# Altium schematic symbol library Schlib_Bourns.SchLib: 62 symbols
Pins are listed as number, name and electrical type; pins without a type are passive.

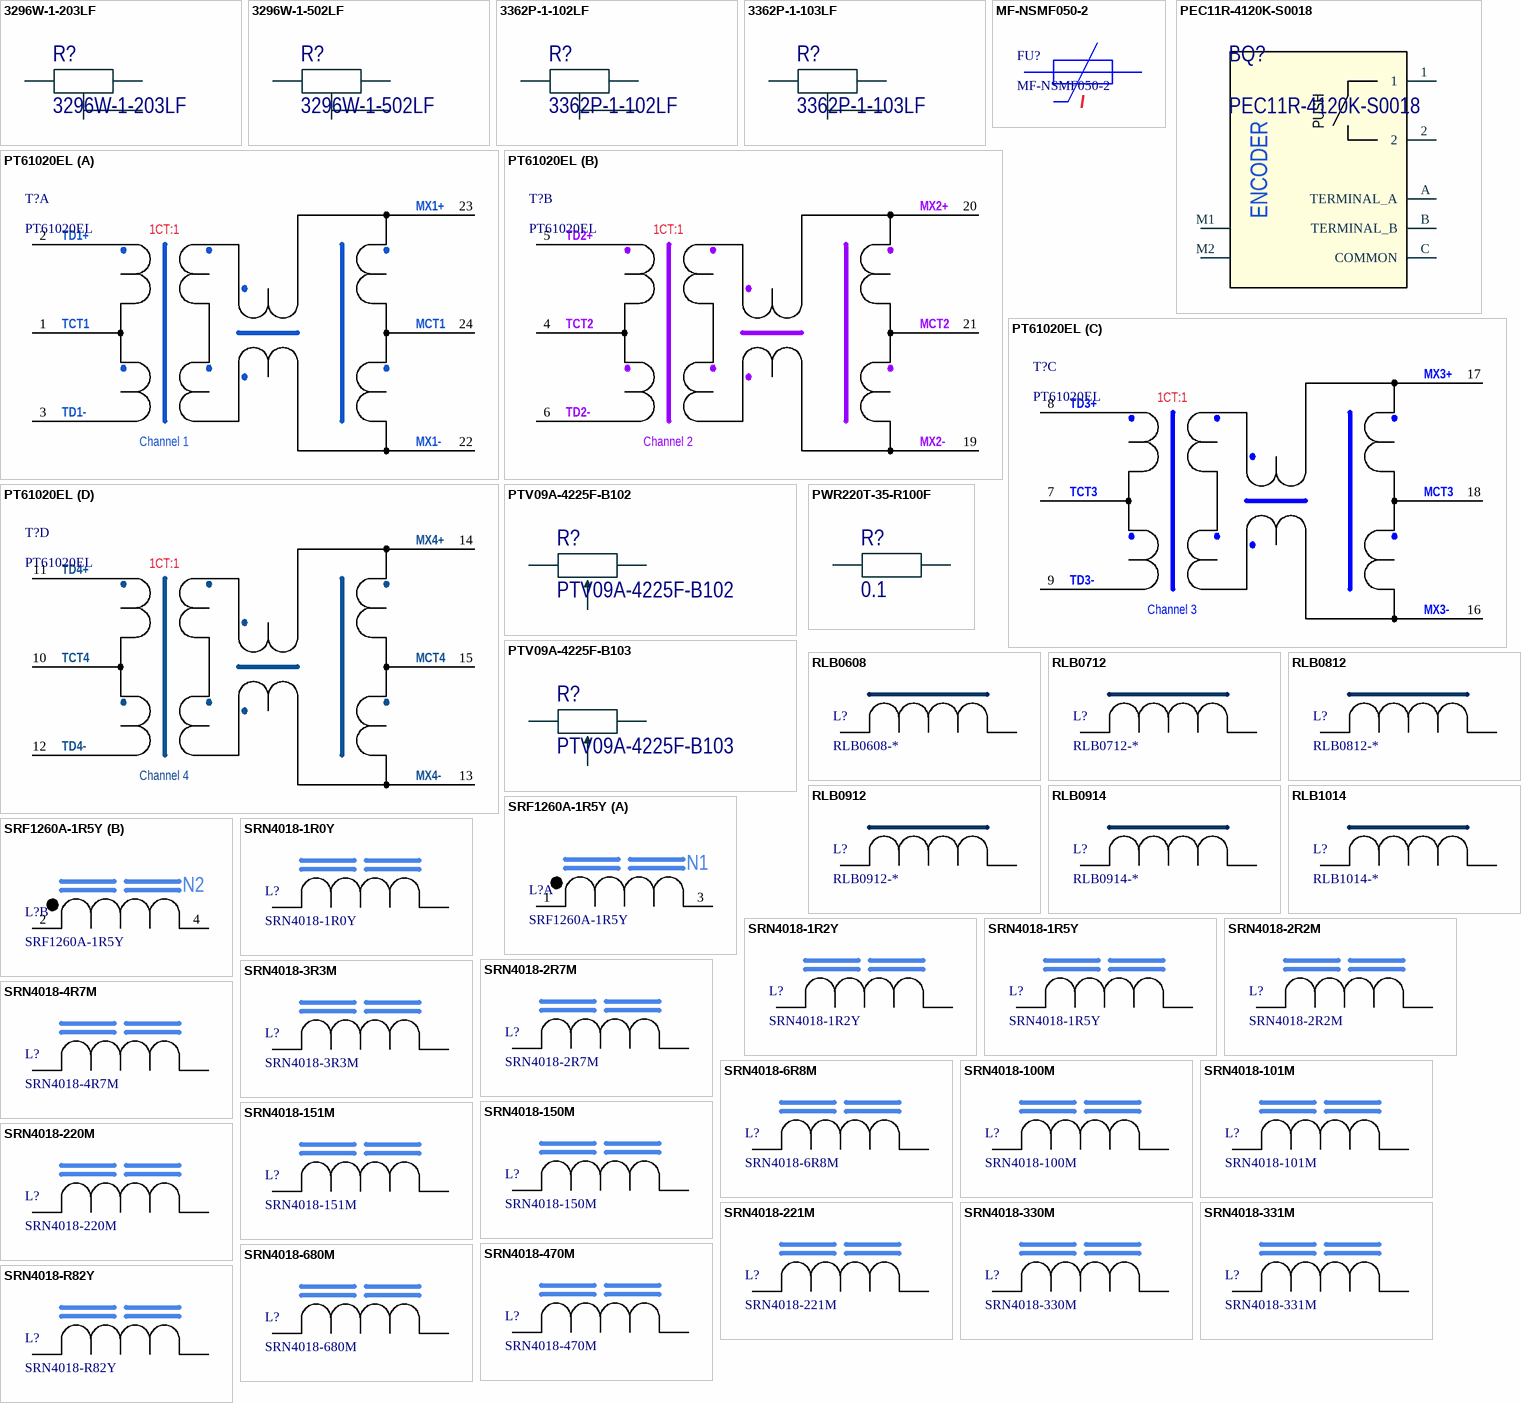
[diagram p0: symbols 3296W-1-203LF to SRN4018-R82Y]

## 3296W-1-203LF
designator R?
TRIMMER 20K OHM 0.5W PC PIN TOP; Manufacturer: Bourns Inc.; Part Number: 3296W-1-203LF; Power Dissipation: 0.5W; Value: 20k
footprint 3296W
pins: 1, 2, 3

## 3296W-1-502LF
designator R?
TRIMMER 5K OHM 0.5W PC PIN TOP; Manufacturer: Bourns Inc.; Part Number: 3296W-1-502LF; Power Dissipation: 0.5W; Value: 5k
footprint 3296W
pins: 1, 2, 3

## 3362P-1-102LF
designator R?
TRIMMER 1K OHM 0.5W PC PIN TOP; Manufacturer: Bourns Inc.; Part Number: 3362P-1-102LF; Power Dissipation: 0.5W; Value: 1k
footprint 3362P
pins: 1, 2, 3

## 3362P-1-103LF
designator R?
TRIMMER 10K OHM 0.5W PC PIN TOP; Manufacturer: Bourns Inc.; Part Number: 3362P-1-103LF; Power Dissipation: 0.5W; Value: 10k
footprint 3362P
pins: 1, 2, 3

## MF-NSMF050-2
designator FU?
PTC Resettable Fuses; Manufacturer: Bourns Inc.; Resistance - Initial (Ri) (Min): 150 mOhms; Resistance - Post Trip (R1) (Max): 700 mOhms; Time to Trip: 100ms; Voltage - Max: 13.2V; Current - Trip (It): 1A; Current - Hold (Ih) (Max): 500mA; Part Number: MF-NSMF050-2; Package: 1206
footprint FUSE1206 (PTC Resettable Fuses 1206)
pins: 1, 2
text: I

## PEC11R-4120K-S0018
designator BQ?
12 mm Incremental Encoder; Manufacturer: Bourns Inc.; Part Number: PEC11R-4120K-S0018
footprint PEC11R-4120K-S0018
pins: 1, 2, A TERMINAL_A, B TERMINAL_B, C COMMON, M1 MECHANICAL1, M2 MECHANICAL2
text: PUSH; ENCODER

## PT61020EL
designator T?
1000BASE-T Magnetics Module; Manufacturer: Bourns; Part Number: PT61020EL
footprint PT61020EL
part A pins: 1 TCT1, 2 TD1+, 3 TD1-, 22 MX1-, 23 MX1+, 24 MCT1
part B pins: 4 TCT2, 5 TD2+, 6 TD2-, 19 MX2-, 20 MX2+, 21 MCT2
part C pins: 7 TCT3, 8 TD3+, 9 TD3-, 16 MX3-, 17 MX3+, 18 MCT3
part D pins: 10 TCT4, 11 TD4+, 12 TD4-, 13 MX4-, 14 MX4+, 15 MCT4
part A text: 1CT:1; Channel 1
part B text: 1CT:1; Channel 2
part C text: 1CT:1; Channel 3
part D text: 1CT:1; Channel 4

## PTV09A-4225F-B102
designator R?
1 kOhm Potentiometer; Manufacturer: Bourns Inc.; Power Dissipation: 0.05W; Value: 1k; Part Number: PTV09A-4225F-B102
footprint PTV09A-4225F
pins: 1, 2, 3

## PTV09A-4225F-B103
designator R?
10 kOhm Potentiometer; Manufacturer: Bourns Inc.; Power Dissipation: 0.05W; Value: 10k; Part Number: PTV09A-4225F-B103
footprint PTV09A-4225F
pins: 1, 2, 3

## PWR220T-35-R100F
designator R?, comment 0.1
PWR220T Series Power Resistor; Part Number: PWR220T-35-R100F; Manufacturer: Bourns Inc.; Power Dissipation: 35W; Value: 0.1
footprint TO-220-2
pins: 1, 3

## RLB0608
designator L?, comment RLB0608-*
Radial Inductors; Manufacturer: Bourns Inc.; RDC: * Ohm; SRF Min: * MHz; Irms  Max: * A; Inductance @ 100 kHz: * µH; Part Number: RLB0608-*; Package: 5x6.5mm; Q: *; Isat  Typ: * A
footprint RLB0608 (Inductor)
pins: 1, 2

## RLB0712
designator L?, comment RLB0712-*
Radial Inductors; Manufacturer: Bourns Inc.; RDC: * Ohm; SRF Min: * MHz; Irms  Max: * A; Inductance @ 100 kHz: * µH; Part Number: RLB0712-*; Package: 6.7x10mm; Q: *; Isat  Typ: * A
footprint RLB0712 (Inductor)
pins: 1, 2

## RLB0812
designator L?, comment RLB0812-*
Radial Inductors; Manufacturer: Bourns Inc.; RDC: * Ohm; SRF Min: * MHz; Irms  Max: * A; Inductance @ 100 kHz: * µH; Part Number: RLB0812-*; Package: 6.7x10mm; Q: *; Isat  Typ: * A
footprint RLB0812 (Inductor)
pins: 1, 2

## RLB0912
designator L?, comment RLB0912-*
Radial Inductors; Manufacturer: Bourns Inc.; RDC: * Ohm; SRF Min: * MHz; Irms  Max: * A; Inductance @ 100 kHz: * µH; Part Number: RLB0912-*; Package: 8.7x12mm; Q: *; Isat  Typ: * A
footprint RLB0912 (Inductor)
pins: 1, 2

## RLB0914
designator L?, comment RLB0914-*
Radial Inductors; Manufacturer: Bourns Inc.; RDC: * Ohm; SRF Min: * MHz; Irms  Max: * A; Inductance @ 100 kHz: * µH; Part Number: RLB0914-*; Package: 8.7x12mm; Q: *; Isat  Typ: * A
footprint RLB0914 (Inductor)
pins: 1, 2

## RLB1014
designator L?, comment RLB1014-*
Radial Inductors; Manufacturer: Bourns Inc.; RDC: * Ohm; SRF Min: * MHz; Irms  Max: * A; Inductance @ 100 kHz: * µH; Part Number: RLB1014-*; Package: 8.7x12mm; Q: *; Isat  Typ: * A
footprint RLB1014 (Inductor)
pins: 1, 2

## SRF1260A-1R5Y
designator L?
Shielded SMD Power Inductors; Manufacturer: Bourns Inc.; RDC: 0.0073 Ohm; Irms  Max: 13.8 A; Isat  Typ: 18.3 A; Inductance @ 100 kHz: 1.5 µH; Part Number: SRF1260A-1R5Y; Package: 12.5 x 12.5 mm
footprint SRF1260A
part A pins: 1, 3
part B pins: 2, 4
part A text: N1
part B text: N2

## SRN4018-1R0Y
designator L?
Shielded SMD Power Inductors; Manufacturer: Bourns Inc.; RDC: 0.023 Ohm; SRF Min: 90 MHz; Q: 9; Irms  Max: 3.7 A; Isat  Typ: 4.2 A; Inductance @ 100 kHz: 1 µH; Part Number: SRN4018-1R0Y; Package: 4.0 x 4.0 mm
footprint SRN4018
pins: 1, 2

## SRN4018-1R2Y
designator L?
Shielded SMD Power Inductors; Manufacturer: Bourns Inc.; RDC: 0.025 Ohm; SRF Min: 80 MHz; Q: 9; Irms  Max: 3.5 A; Isat  Typ: 4.0 A; Inductance @ 100 kHz: 1.2 µH; Part Number: SRN4018-1R2Y; Package: 4.0 x 4.0 mm
footprint SRN4018
pins: 1, 2

## SRN4018-1R5Y
designator L?
Shielded SMD Power Inductors; Manufacturer: Bourns Inc.; RDC: 0.032 Ohm; SRF Min: 70 MHz; Q: 9; Irms  Max: 3.1 A; Isat  Typ: 3.5 A; Inductance @ 100 kHz: 1.5 µH; Part Number: SRN4018-1R5Y; Package: 4.0 x 4.0 mm
footprint SRN4018
pins: 1, 2

## SRN4018-2R2M
designator L?
Shielded SMD Power Inductors; Manufacturer: Bourns Inc.; RDC: 0.044 Ohm; SRF Min: 60 MHz; Q: 9; Irms  Max: 2.9 A; Isat  Typ: 3.0 A; Inductance @ 100 kHz: 2.2 µH; Part Number: SRN4018-2R2M; Package: 4.0 x 4.0 mm
footprint SRN4018
pins: 1, 2

## SRN4018-2R7M
designator L?
Shielded SMD Power Inductors; Manufacturer: Bourns Inc.; RDC: 0.052 Ohm; SRF Min: 52 MHz; Q: 9; Irms  Max: 2.3 A; Isat  Typ: 2.4 A; Inductance @ 100 kHz: 2.7 µH; Part Number: SRN4018-2R7M; Package: 4.0 x 4.0 mm
footprint SRN4018
pins: 1, 2

## SRN4018-3R3M
designator L?
Shielded SMD Power Inductors; Manufacturer: Bourns Inc.; RDC: 0.066 Ohm; SRF Min: 45 MHz; Q: 9; Irms  Max: 2.2 A; Isat  Typ: 2.3 A; Inductance @ 100 kHz: 2.7 µH; Part Number: SRN4018-3R3M; Package: 4.0 x 4.0 mm
footprint SRN4018
pins: 1, 2

## SRN4018-4R7M
designator L?
Shielded SMD Power Inductors; Manufacturer: Bourns Inc.; RDC: 0.084 Ohm; SRF Min: 35 MHz; Q: 9; Irms  Max: 1.9 A; Isat  Typ: 2.0 A; Inductance @ 100 kHz: 4.7 µH; Part Number: SRN4018-4R7M; Package: 4.0 x 4.0 mm
footprint SRN4018
pins: 1, 2

## SRN4018-6R8M
designator L?
Shielded SMD Power Inductors; Manufacturer: Bourns Inc.; RDC: 0.118 Ohm; SRF Min: 30 MHz; Q: 9; Irms  Max: 1.5 A; Isat  Typ: 1.6 A; Inductance @ 100 kHz: 6.8 µH; Part Number: SRN4018-6R8M; Package: 4.0 x 4.0 mm
footprint SRN4018
pins: 1, 2

## SRN4018-100M
designator L?
Shielded SMD Power Inductors; Manufacturer: Bourns Inc.; RDC: 0.180 Ohm; SRF Min: 25 MHz; Q: 11; Irms  Max: 1.3 A; Isat  Typ: 1.4 A; Inductance @ 100 kHz: 10 µH; Part Number: SRN4018-100M; Package: 4.0 x 4.0 mm
footprint SRN4018
pins: 1, 2

## SRN4018-101M
designator L?
Shielded SMD Power Inductors; Manufacturer: Bourns Inc.; RDC: 1.596 Ohm; SRF Min: 6 MHz; Q: 23; Irms  Max: 0.42 A; Isat  Typ: 0.45 A; Inductance @ 100 kHz: 100 µH; Part Number: SRN4018-101M; Package: 4.0 x 4.0 mm
footprint SRN4018
pins: 1, 2

## SRN4018-150M
designator L?
Shielded SMD Power Inductors; Manufacturer: Bourns Inc.; RDC: 0.264 Ohm; SRF Min: 18 MHz; Q: 11; Irms  Max: 1.0 A; Isat  Typ: 1.1 A; Inductance @ 100 kHz: 15 µH; Part Number: SRN4018-150M; Package: 4.0 x 4.0 mm
footprint SRN4018
pins: 1, 2

## SRN4018-151M
designator L?
Shielded SMD Power Inductors; Manufacturer: Bourns Inc.; RDC: 2.400 Ohm; SRF Min: 5 MHz; Q: 23; Irms  Max: 0.32 A; Isat  Typ: 0.35 A; Inductance @ 100 kHz: 150 µH; Part Number: SRN4018-151M; Package: 4.0 x 4.0 mm
footprint SRN4018
pins: 1, 2

## SRN4018-220M
designator L?
Shielded SMD Power Inductors; Manufacturer: Bourns Inc.; RDC: 0.348 Ohm; SRF Min: 15 MHz; Q: 11; Irms  Max: 0.9 A; Isat  Typ: 0.95 A; Inductance @ 100 kHz: 22 µH; Part Number: SRN4018-220M; Package: 4.0 x 4.0 mm
footprint SRN4018
pins: 1, 2

## SRN4018-221M
designator L?
Shielded SMD Power Inductors; Manufacturer: Bourns Inc.; RDC: 3.552 Ohm; SRF Min: 3 MHz; Q: 30; Irms  Max: 0.28 A; Isat  Typ: 0.30 A; Inductance @ 100 kHz: 220 µH; Part Number: SRN4018-221M; Package: 4.0 x 4.0 mm
footprint SRN4018
pins: 1, 2

## SRN4018-330M
designator L?
Shielded SMD Power Inductors; Manufacturer: Bourns Inc.; RDC: 0.552 Ohm; SRF Min: 12 MHz; Q: 11; Irms  Max: 0.7 A; Isat  Typ: 0.75 A; Inductance @ 100 kHz: 33 µH; Part Number: SRN4018-330M; Package: 4.0 x 4.0 mm
footprint SRN4018
pins: 1, 2

## SRN4018-331M
designator L?
Shielded SMD Power Inductors; Manufacturer: Bourns Inc.; RDC: 6.36 Ohm; SRF Min: 6 MHz; Q: 30; Irms  Max: 0.2 A; Isat  Typ: 0.21 A; Inductance @ 100 kHz: 330 µH; Part Number: SRN4018-331M; Package: 4.0 x 4.0 mm
footprint SRN4018
pins: 1, 2

## SRN4018-470M
designator L?
Shielded SMD Power Inductors; Manufacturer: Bourns Inc.; RDC: 0.780 Ohm; SRF Min: 10 MHz; Q: 11; Irms  Max: 0.6 A; Isat  Typ: 0.62 A; Inductance @ 100 kHz: 47 µH; Part Number: SRN4018-470M; Package: 4.0 x 4.0 mm
footprint SRN4018
pins: 1, 2

## SRN4018-680M
designator L?
Shielded SMD Power Inductors; Manufacturer: Bourns Inc.; RDC: 1.128 Ohm; SRF Min: 8 MHz; Q: 11; Irms  Max: 0.5 A; Inductance @ 100 kHz: 68 µH; Part Number: SRN4018-680M; Package: 4.0 x 4.0 mm; Isat  Typ: 0.5 A
footprint SRN4018
pins: 1, 2

## SRN4018-R82Y
designator L?
Shielded SMD Power Inductors; Manufacturer: Bourns Inc.; RDC: 0.019 Ohm; SRF Min: 100 MHz; Q: 9; Irms  Max: 4.0 A; Isat  Typ: 4.7 A; Inductance @ 100 kHz: 0.82 µH; Part Number: SRN4018-R82Y; Package: 4.0 x 4.0 mm
footprint SRN4018
pins: 1, 2

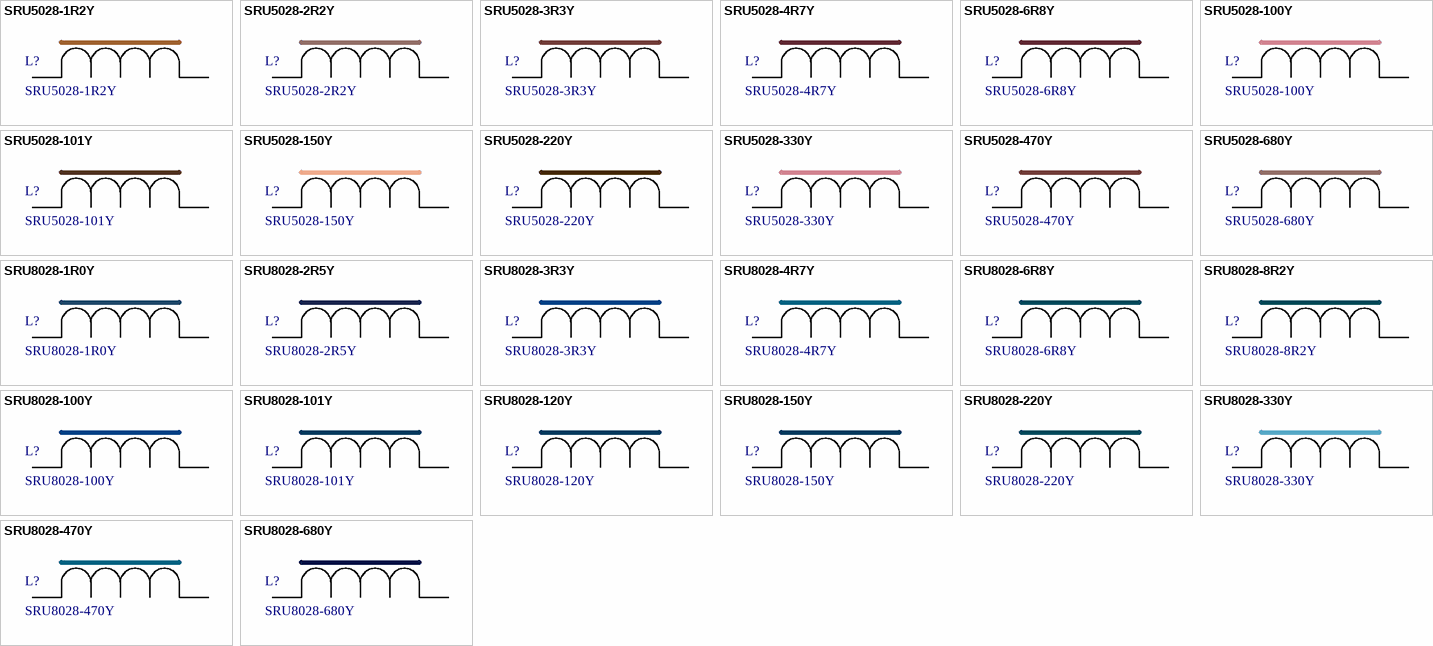
[diagram p1: symbols SRU5028-1R2Y to SRU8028-680Y]

## SRU5028-1R2Y
designator L?
Shielded SMD Power Inductors; Manufacturer: Bourns Inc.; RDC: 16.8 mOhm; SRF Min: 200 MHz; Q: 10; Irms  Max: 3.50 A; Isat  Typ: 3.40 A; Inductance @ 100 kHz: 1.2 µH; Part Number: SRU5028-1R2Y; Package: 5.2 x 5.2 mm
footprint SRU5028
pins: 1, 2

## SRU5028-2R2Y
designator L?
Shielded SMD Power Inductors; Manufacturer: Bourns Inc.; RDC: 21 mOhm; SRF Min: 130 MHz; Q: 10; Irms  Max: 3.20 A; Isat  Typ: 2.50 A; Inductance @ 100 kHz: 2.2 µH; Part Number: SRU5028-2R2Y; Package: 5.2 x 5.2 mm
footprint SRU5028
pins: 1, 2

## SRU5028-3R3Y
designator L?
Shielded SMD Power Inductors; Manufacturer: Bourns Inc.; RDC: 24 mOhm; SRF Min: 90 MHz; Q: 10; Irms  Max: 2.80 A; Isat  Typ: 2.10 A; Inductance @ 100 kHz: 3.3 µH; Part Number: SRU5028-3R3Y; Package: 5.2 x 5.2 mm
footprint SRU5028
pins: 1, 2

## SRU5028-4R7Y
designator L?
Shielded SMD Power Inductors; Manufacturer: Bourns Inc.; RDC: 32 mOhm; SRF Min: 50 MHz; Q: 9; Irms  Max: 2.20 A; Isat  Typ: 1.85 A; Inductance @ 100 kHz: 4.7 µH; Part Number: SRU5028-4R7Y; Package: 5.2 x 5.2 mm
footprint SRU5028
pins: 1, 2

## SRU5028-6R8Y
designator L?
Shielded SMD Power Inductors; Manufacturer: Bourns Inc.; RDC: 42 mOhm; SRF Min: 55 MHz; Q: 10; Irms  Max: 2.00 A; Isat  Typ: 1.55 A; Inductance @ 100 kHz: 6.8 µH; Part Number: SRU5028-6R8Y; Package: 5.2 x 5.2 mm
footprint SRU5028
pins: 1, 2

## SRU5028-100Y
designator L?
Shielded SMD Power Inductors; Manufacturer: Bourns Inc.; RDC: 63 mOhm; SRF Min: 25 MHz; Q: 18; Irms  Max: 1.80 A; Isat  Typ: 1.40 A; Inductance @ 100 kHz: 10 µH; Part Number: SRU5028-100Y; Package: 5.2 x 5.2 mm
footprint SRU5028
pins: 1, 2

## SRU5028-101Y
designator L?
Shielded SMD Power Inductors; Manufacturer: Bourns Inc.; RDC: 625 mOhm; SRF Min: 8 MHz; Q: 15; Irms  Max: 0.47 A; Isat  Typ: 0.42 A; Inductance @ 100 kHz: 100 µH; Part Number: SRU5028-101Y; Package: 5.2 x 5.2 mm
footprint SRU5028
pins: 1, 2

## SRU5028-150Y
designator L?
Shielded SMD Power Inductors; Manufacturer: Bourns Inc.; RDC: 108 mOhm; SRF Min: 23 MHz; Q: 18; Irms  Max: 1.10 A; Isat  Typ: 1.00 A; Inductance @ 100 kHz: 15 µH; Part Number: SRU5028-150Y; Package: 5.2 x 5.2 mm
footprint SRU5028
pins: 1, 2

## SRU5028-220Y
designator L?
Shielded SMD Power Inductors; Manufacturer: Bourns Inc.; RDC: 162 mOhm; SRF Min: 18 MHz; Q: 15; Irms  Max: 0.95 A; Isat  Typ: 0.85 A; Inductance @ 100 kHz: 22 µH; Part Number: SRU5028-220Y; Package: 5.2 x 5.2 mm
footprint SRU5028
pins: 1, 2

## SRU5028-330Y
designator L?
Shielded SMD Power Inductors; Manufacturer: Bourns Inc.; RDC: 203 mOhm; SRF Min: 16 MHz; Q: 15; Irms  Max: 0.80 A; Isat  Typ: 0.68 A; Inductance @ 100 kHz: 33 µH; Part Number: SRU5028-330Y; Package: 5.2 x 5.2 mm
footprint SRU5028
pins: 1, 2

## SRU5028-470Y
designator L?
Shielded SMD Power Inductors; Manufacturer: Bourns Inc.; RDC: 285 mOhm; SRF Min: 13 MHz; Q: 13; Irms  Max: 0.70 A; Isat  Typ: 0.62 A; Inductance @ 100 kHz: 47 µH; Part Number: SRU5028-470Y; Package: 5.2 x 5.2 mm
footprint SRU5028
pins: 1, 2

## SRU5028-680Y
designator L?
Shielded SMD Power Inductors; Manufacturer: Bourns Inc.; RDC: 450 mOhm; SRF Min: 10 MHz; Q: 13; Irms  Max: 0.56 A; Isat  Typ: 0.46 A; Inductance @ 100 kHz: 68 µH; Part Number: SRU5028-680Y; Package: 5.2 x 5.2 mm
footprint SRU5028
pins: 1, 2

## SRU8028-1R0Y
designator L?
Shielded SMD Power Inductors; Manufacturer: Bourns Inc.; RDC: 10.1 mOhm; SRF Min: 66 MHz; Q: 12; Irms  Max: 7.00 A; Isat  Typ: 5.50 A; Inductance @ 100 kHz: 1 µH; Part Number: SRU8028-1R0Y; Package: 8.0 x 8.0 mm
footprint SRU8028
pins: 1, 2

## SRU8028-2R5Y
designator L?
Shielded SMD Power Inductors; Manufacturer: Bourns Inc.; RDC: 13.6 mOhm; SRF Min: 65 MHz; Q: 15; Irms  Max: 4.50 A; Isat  Typ: 4.20 A; Inductance @ 100 kHz: 2.5 µH; Part Number: SRU8028-2R5Y; Package: 8.0 x 8.0 mm
footprint SRU8028
pins: 1, 2

## SRU8028-3R3Y
designator L?
Shielded SMD Power Inductors; Manufacturer: Bourns Inc.; RDC: 17.5 mOhm; SRF Min: 60 MHz; Q: 12; Irms  Max: 3.60 A; Isat  Typ: 3.50 A; Inductance @ 100 kHz: 3.3 µH; Part Number: SRU8028-3R3Y; Package: 8.0 x 8.0 mm
footprint SRU8028
pins: 1, 2

## SRU8028-4R7Y
designator L?
Shielded SMD Power Inductors; Manufacturer: Bourns Inc.; RDC: 20 mOhm; SRF Min: 50 MHz; Q: 15; Irms  Max: 3.70 A; Isat  Typ: 3.20 A; Inductance @ 100 kHz: 4.7 µH; Part Number: SRU8028-4R7Y; Package: 8.0 x 8.0 mm
footprint SRU8028
pins: 1, 2

## SRU8028-6R8Y
designator L?
Shielded SMD Power Inductors; Manufacturer: Bourns Inc.; RDC: 34 mOhm; SRF Min: 40 MHz; Q: 13; Irms  Max: 2.80 A; Isat  Typ: 2.50 A; Inductance @ 100 kHz: 6.8 µH; Part Number: SRU8028-6R8Y; Package: 8.0 x 8.0 mm
footprint SRU8028
pins: 1, 2

## SRU8028-8R2Y
designator L?
Shielded SMD Power Inductors; Manufacturer: Bourns Inc.; RDC: 54 mOhm; SRF Min: 37 MHz; Q: 17; Irms  Max: 2.60 A; Isat  Typ: 2.30 A; Inductance @ 100 kHz: 8.2 µH; Part Number: SRU8028-8R2Y; Package: 8.0 x 8.0 mm
footprint SRU8028
pins: 1, 2

## SRU8028-100Y
designator L?
Shielded SMD Power Inductors; Manufacturer: Bourns Inc.; RDC: 45 mOhm; SRF Min: 35 MHz; Q: 22; Irms  Max: 2.60 A; Isat  Typ: 2.20 A; Inductance @ 100 kHz: 10 µH; Part Number: SRU8028-100Y; Package: 8.0 x 8.0 mm
footprint SRU8028
pins: 1, 2

## SRU8028-101Y
designator L?
Shielded SMD Power Inductors; Manufacturer: Bourns Inc.; RDC: 390 mOhm; SRF Min: 8 MHz; Q: 35; Irms  Max: 0.75 A; Isat  Typ: 0.70 A; Inductance @ 100 kHz: 100 µH; Part Number: SRU8028-101Y; Package: 8.0 x 8.0 mm
footprint SRU8028
pins: 1, 2

## SRU8028-120Y
designator L?
Shielded SMD Power Inductors; Manufacturer: Bourns Inc.; RDC: 76 mOhm; SRF Min: 30 MHz; Q: 21; Irms  Max: 2.20 A; Isat  Typ: 2.00 A; Inductance @ 100 kHz: 12 µH; Part Number: SRU8028-120Y; Package: 8.0 x 8.0 mm
footprint SRU8028
pins: 1, 2

## SRU8028-150Y
designator L?
Shielded SMD Power Inductors; Manufacturer: Bourns Inc.; RDC: 66 mOhm; SRF Min: 25 MHz; Q: 20; Irms  Max: 2.00 A; Isat  Typ: 1.70 A; Inductance @ 100 kHz: 15 µH; Part Number: SRU8028-150Y; Package: 8.0 x 8.0 mm
footprint SRU8028
pins: 1, 2

## SRU8028-220Y
designator L?
Shielded SMD Power Inductors; Manufacturer: Bourns Inc.; RDC: 106 mOhm; SRF Min: 20 MHz; Q: 22; Irms  Max: 1.60 A; Isat  Typ: 1.50 A; Inductance @ 100 kHz: 22 µH; Part Number: SRU8028-220Y; Package: 8.0 x 8.0 mm
footprint SRU8028
pins: 1, 2

## SRU8028-330Y
designator L?
Shielded SMD Power Inductors; Manufacturer: Bourns Inc.; RDC: 147 mOhm; SRF Min: 15 MHz; Q: 20; Irms  Max: 1.30 A; Isat  Typ: 1.10 A; Inductance @ 100 kHz: 33 µH; Part Number: SRU8028-330Y; Package: 8.0 x 8.0 mm
footprint SRU8028
pins: 1, 2

## SRU8028-470Y
designator L?
Shielded SMD Power Inductors; Manufacturer: Bourns Inc.; RDC: 177 mOhm; SRF Min: 12 MHz; Q: 14; Irms  Max: 1.20 A; Isat  Typ: 1.00 A; Inductance @ 100 kHz: 47 µH; Part Number: SRU8028-470Y; Package: 8.0 x 8.0 mm
footprint SRU8028
pins: 1, 2

## SRU8028-680Y
designator L?
Shielded SMD Power Inductors; Manufacturer: Bourns Inc.; RDC: 317 mOhm; SRF Min: 9 MHz; Q: 23; Irms  Max: 0.85 A; Isat  Typ: 0.80 A; Inductance @ 100 kHz: 68 µH; Part Number: SRU8028-680Y; Package: 8.0 x 8.0 mm
footprint SRU8028
pins: 1, 2